# EAGLE library part HFR050RA (library con-thomas-betts)
THOMAS&BETTS
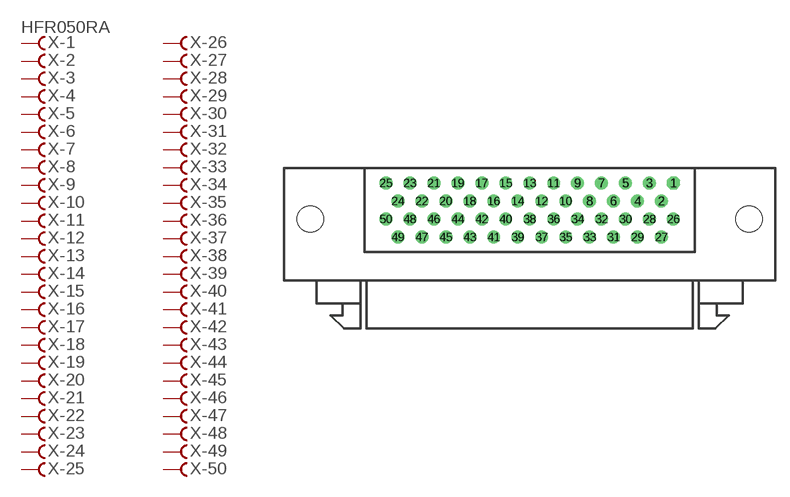
[diagram p19: symbol with the pads of HFR050RA; footprint HFR050RA]

Designator prefix X; gates -2=F -3=F -4=F -5=F -6=F -7=F -8=F -9=F -10=F -11=F -12=F -13=F -14=F -15=F -16=F -17=F -18=F -19=F -20=F -21=F -22=F -23=F -24=F -25=F -27=F -28=F -29=F -30=F -31=F -32=F -33=F -34=F -35=F -36=F -37=F -38=F -39=F -40=F -41=F -42=F -43=F -44=F -45=F -46=F -47=F -48=F -49=F -50=F -1=FV -26=F

## HFR050RA (OC_FARNELL: unknown; OC_NEWARK: unknown)  [HFR050RA]
1  -1:F  pas
2  -2:F  pas
3  -3:F  pas
4  -4:F  pas
5  -5:F  pas
6  -6:F  pas
7  -7:F  pas
8  -8:F  pas
9  -9:F  pas
10  -10:F  pas
11  -11:F  pas
12  -12:F  pas
13  -13:F  pas
14  -14:F  pas
15  -15:F  pas
16  -16:F  pas
17  -17:F  pas
18  -18:F  pas
19  -19:F  pas
20  -20:F  pas
21  -21:F  pas
22  -22:F  pas
23  -23:F  pas
24  -24:F  pas
25  -25:F  pas
26  -26:F  pas
27  -27:F  pas
28  -28:F  pas
29  -29:F  pas
30  -30:F  pas
31  -31:F  pas
32  -32:F  pas
33  -33:F  pas
34  -34:F  pas
35  -35:F  pas
36  -36:F  pas
37  -37:F  pas
38  -38:F  pas
39  -39:F  pas
40  -40:F  pas
41  -41:F  pas
42  -42:F  pas
43  -43:F  pas
44  -44:F  pas
45  -45:F  pas
46  -46:F  pas
47  -47:F  pas
48  -48:F  pas
49  -49:F  pas
50  -50:F  pas

## Footprint HFR050RA (pad centres in mm)
THOMAS&BETTS Fine Pitch "D" Connector HFR050RA29xxx
drill 0.864 octagon: 1 15.24,8.89
drill 0.864: 2 13.97,6.98; 3 12.7,8.89; 4 11.43,6.98; 5 10.16,8.89; 6 8.89,6.98; 7 7.62,8.89; 8 6.35,6.98; 9 5.08,8.89; 10 3.81,6.98; 11 2.54,8.89; 12 1.27,6.98; 13 0,8.89; 14 -1.27,6.98; 15 -2.54,8.89; 16 -3.81,6.98; 17 -5.08,8.89; 18 -6.35,6.98; 19 -7.62,8.89; 20 -8.89,6.98; 21 -10.16,8.89; 22 -11.43,6.98; 23 -12.7,8.89; 24 -13.97,6.98; 25 -15.24,8.89; 26 15.24,5.07; 27 13.97,3.16; 28 12.7,5.07; 29 11.43,3.16; 30 10.16,5.07; 31 8.89,3.16; 32 7.62,5.07; 33 6.35,3.16; 34 5.08,5.07; 35 3.81,3.16; 36 2.54,5.07; 37 1.27,3.16; 38 0,5.07; 39 -1.27,3.16; 40 -2.54,5.07; 41 -3.81,3.16; 42 -5.08,5.07; 43 -6.35,3.16; 44 -7.62,5.07; 45 -8.89,3.16; 46 -10.16,5.07; 47 -11.43,3.16; 48 -12.7,5.07; 49 -13.97,3.16; 50 -15.24,5.07
hole 2.769 at 23.241,5.07
hole 2.769 at -23.241,5.07